# EAGLE library part INTERFAZ_I2C (library Interfaz_I2C)
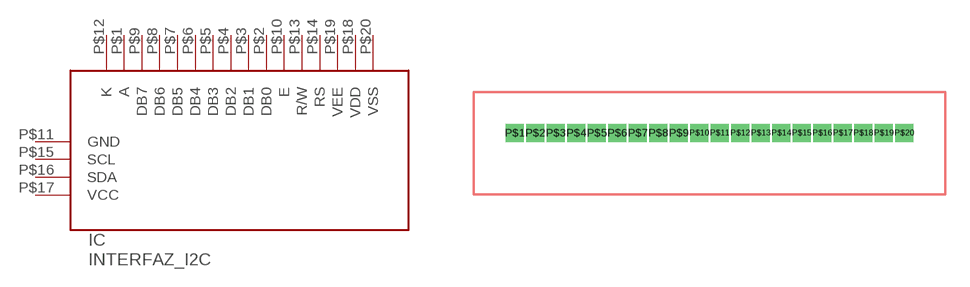
[diagram p0: symbol with the pads of NO_FOOTPRINT; footprint NO_FOOTPRINT]

Designator prefix IC

## INTERFAZ_I2C  [NO_FOOTPRINT]
P$1  A
P$2  DB0
P$3  DB1
P$4  DB2
P$5  DB3
P$6  DB4
P$7  DB5
P$8  DB6
P$9  DB7
P$10  E
P$11  GND
P$12  K
P$13  R/W
P$14  RS
P$15  SCL
P$16  SDA
P$17  VCC
P$18  VDD
P$19  VEE
P$20  VSS

## Footprint NO_FOOTPRINT (pad centres in mm)
drill 0.6 square: P$1 -6.35,1.27; P$2 -5.08,1.27; P$3 -3.81,1.27; P$4 -2.54,1.27; P$5 -1.27,1.27; P$6 0,1.27; P$7 1.27,1.27; P$8 2.54,1.27; P$9 3.81,1.27; P$10 5.08,1.27; P$11 6.35,1.27; P$12 7.62,1.27; P$13 8.89,1.27; P$14 10.16,1.27; P$15 11.43,1.27; P$16 12.7,1.27; P$17 13.97,1.27; P$18 15.24,1.27; P$19 16.51,1.27; P$20 17.78,1.27